# EAGLE library part SM10B-SRSS-TB(LF)(SN) (library squirrel)
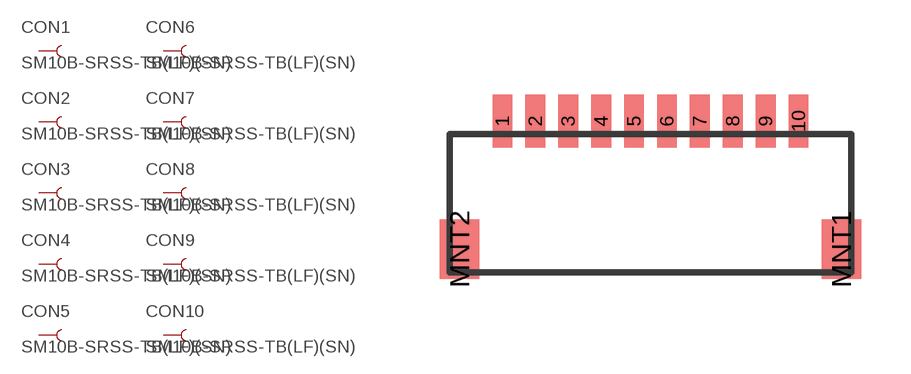
[diagram p25: symbol with the pads of SM10B-SRSS-TB; footprint SM10B-SRSS-TB]

Designator prefix CON; gates 1=TEST-POINT 2=TEST-POINT 3=TEST-POINT 4=TEST-POINT 5=TEST-POINT 6=TEST-POINT 7=TEST-POINT 8=TEST-POINT 9=TEST-POINT 10=TEST-POINT

## SM10B-SRSS-TB(LF)(SN)  [SM10B-SRSS-TB]
1  1:1
2  2:1
3  3:1
4  4:1
5  5:1
6  6:1
7  7:1
8  8:1
9  9:1
10  10:1

## Footprint SM10B-SRSS-TB (pad centres in mm)
smd 0.6 x 1.6: 1 -4.5,0; 2 -3.5,0; 3 -2.5,0; 4 -1.5,0; 5 -0.5,0; 6 0.5,0; 7 1.5,0; 8 2.5,0; 9 3.5,0; 10 4.5,0
smd 1.2 x 1.8: MNT1 5.8,-3.9; MNT2 -5.8,-3.9